# Altium schematic symbol library SX1262_ours.SchLib: 1 symbol
Pins are listed as number, name and electrical type; pins without a type are passive.

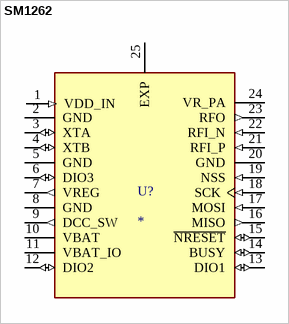
[diagram p0: symbol SM1262]

## SM1262
designator U?
IC RF TxRx Only General ISM < 1GHz LoRaWAN 150MHz ~ 960MHz 24-VFQFN Exposed Pad
footprint SX
pins: 1 VDD_IN (in), 2 GND (power), 3 XTA (io), 4 XTB (io), 5 GND (power), 6 DIO3 (io), 7 VREG (out), 8 GND (power), 9 DCC_SW (out), 10 VBAT (power), 11 VBAT_IO (power), 12 DIO2 (io), 13 DIO1 (io), 14 BUSY (io), 15 ~{NRESET} (io), 16 MISO (out), 17 MOSI (in), 18 SCK (in), 19 NSS (in), 20 GND (power), 21 RFI_P (in), 22 RFI_N (in), 23 RFO (out), 24 VR_PA (power), 25 EXP (power)